# Altium schematic symbol library YakupTrkn.SchLib: 41 symbols
Pins are listed as number, name and electrical type; pins without a type are passive.

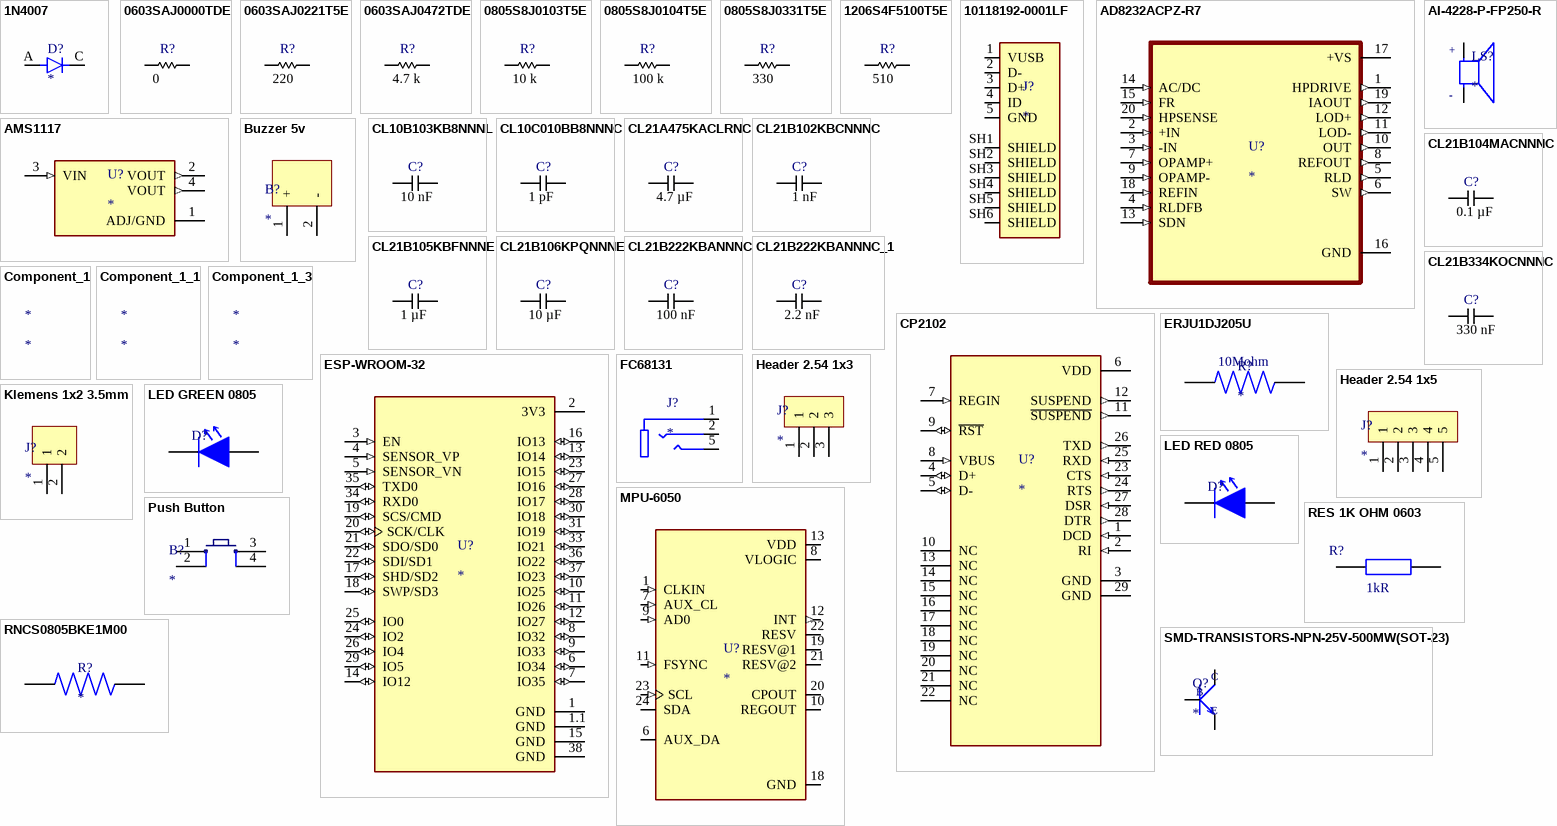
[diagram p0: symbols 1N4007 to SMD-TRANSISTORS-NPN-25V-500MW(SOT-23)]

## 1N4007
designator D?
Diode Switching 1KV 1A 2-Pin DO-41; MP: 1N4007; MF: {'manufacturer': u'ON Semiconductor'}; Availability: Unavailable; Value: *; Package: None; Price: None
footprint DIOAD1060W80L520D270
pins: A, C

## 0603SAJ0000TDE
designator R?  Resistance: 0  (hidden comment: *)
RES SMD 0 OHM 5% 1/10W 0603
footprint ROYALOHM_RES_0603
pins: 1, 2

## 0603SAJ0221T5E
designator R?  Resistance: 220  (hidden comment: *)
RES SMD 220R OHM 5% 1/10W 0603
footprint ROYALOHM_RES_0603
pins: 1, 2

## 0603SAJ0472TDE
designator R?  Resistance: 4.7 k  (hidden comment: *)
RES SMD 4.7K OHM 5% 1/10W 0603
footprint ROYALOHM_RES_0603
pins: 1, 2

## 0805S8J0103T5E
designator R?  Resistance: 10 k  (hidden comment: *)
RES SMD 10K OHM 5% 1/8W 0805
footprint ROYALOHM_RES_0805
pins: 1, 2

## 0805S8J0104T5E
designator R?  Resistance: 100 k  (hidden comment: *)
RES SMD 100K OHM 5% 1/8W 0805
footprint ROYALOHM_RES_0805
pins: 1, 2

## 0805S8J0331T5E
designator R?  Resistance: 330  (hidden comment: *)
RES SMD 330R OHM 5% 1/8W 0805
footprint ROYALOHM_RES_0805
pins: 1, 2

## 1206S4F5100T5E
designator R?  Resistance: 510  (hidden comment: *)
RES SMD 510 OHM 1% 1/4W 1206
footprint ROYALOHM_RES_1206
pins: 1, 2

## 10118192-0001LF
designator J?
Single Port 5 Contact Horizontal Right Angle Shielded Micro B USB 2.0 Connector; MP: 10118192-0001LF; MF: {'manufacturer': u'FCI'}; Package: None; Availability: Unavailable; Value: *; Price: None
footprint AMPHENOL_10118192-0001LF
pins: 1 VUSB, 2 D-, 3 D+, 4 ID, 5 GND, SH1 SHIELD, SH2 SHIELD, SH3 SHIELD, SH4 SHIELD, SH5 SHIELD, SH6 SHIELD

## AD8232ACPZ-R7
designator U?
MP: AD8232ACPZ-R7; MF: {'manufacturer': u'Analog Devices'}; Availability: Unavailable; Price: None; Package: None; Value: *
footprint QFN50P400X400X100-21N
pins: 1 HPDRIVE (out), 2 +IN (in), 3 -IN (in), 4 RLDFB (in), 5 RLD (out), 6 SW (out), 7 OPAMP+ (in), 8 REFOUT (out), 9 OPAMP- (in), 10 OUT (out), 11 LOD- (out), 12 LOD+ (out), 13 SDN (in), 14 AC/DC (in), 15 FR (in), 16 GND (power), 17 +VS (power), 18 REFIN (in), 19 IAOUT (out), 20 HPSENSE (in)

## AI-4228-P-FP250-R
designator LS?
MF: {'manufacturer': u'PUI Audio'}; MP: AI-4228-P-FP250-R; Price: None; Value: *; Package: None; Availability: Unavailable
footprint XDCR_AI-4228-P-FP250-R
pins: N, P
text: +; -

## AMS1117
designator U?
Sot223/Pkg 1-Amp 5-Volt Low Drop Out Voltage Regulatator; MF: {'manufacturer': u'Advanced Monolithic Systems'}; MP: AMS1117; Package: None; Price: None; Availability: Unavailable; Value: *
footprint SOT229P700X180-4N
pins: 1 ADJ/GND (power), 2 VOUT (out), 3 VIN (in), 4 VOUT (out)

## Buzzer 5v
designator B?
Buzzer 5v
footprint Buzzer 5v
pins: 1 +, 2 -

## CL10B103KB8NNNL
designator C?  Capacitance: 10 nF  (hidden comment: *)
CAP CER 10000PF 50V X7R 0603; Supplier 1: Mouser; Supplier Part Number 1: 187-CL10B103KB8NNNL
footprint SAMSUNG_CAP_0603_090
pins: 1, 2

## CL10C010BB8NNNC
designator C?  Capacitance: 1 pF  (hidden comment: *)
CAP CER 1PF 50V C0G/NP0 0603; Supplier 1: Digi-Key; Supplier 2: Arrow Electronics; Supplier Part Number 1: 1276-1095-1-ND; Supplier Part Number 2: CL10C010BB8NNNC
footprint SAMSUNG_CAP_0603_090
pins: 1, 2

## CL21A475KACLRNC
designator C?  Capacitance: 4.7 µF  (hidden comment: *)
CAP CER 4.7UF 25V X5R 0805; Supplier 1: Digi-Key; Supplier 2: Mouser; Supplier 3: Arrow Electronics; Supplier Part Number 1: 1276-2415-1-ND; Supplier Part Number 2: 187-CL21A475KACLRNC; Supplier Part Number 3: CL21A475KACLRNC
footprint SAMSUNG_CAP_0805_095
pins: 1, 2

## CL21B102KBCNNNC
designator C?  Capacitance: 1 nF  (hidden comment: *)
CAP CER 1000PF 50V X7R 0805; Supplier 1: Digi-Key; Supplier 2: Farnell; Supplier 3: Mouser; Supplier Part Number 1: 1276-2425-1-ND; Supplier Part Number 2: 3013468; Supplier Part Number 3: 187-CL21B102KBCNNNC
footprint SAMSUNG_CAP_0805_095
pins: 1, 2

## CL21B104MACNNNC
designator C?  Capacitance: 0.1 µF  (hidden comment: *)
CAP CER 0.1UF 25V X7R 0805; Supplier 1: Digi-Key; Supplier 2: Mouser; Supplier 3: Arrow Electronics; Supplier Part Number 1: 1276-2449-1-ND; Supplier Part Number 2: 187-CL21B104MACNNNC; Supplier Part Number 3: CL21B104MACNNNC
footprint SAMSUNG_CAP_0805_095
pins: 1, 2

## CL21B105KBFNNNE
designator C?  Capacitance: 1 µF  (hidden comment: *)
CAP CER 1UF 50V X7R 0805; Supplier 1: Digi-Key; Supplier 2: Farnell; Supplier 3: Mouser; Supplier Part Number 1: 1276-1029-1-ND; Supplier Part Number 2: 3013482; Supplier Part Number 3: 187-CL21B105KBFNNNE
footprint SAMSUNG_CAP_0805_135
pins: 1, 2

## CL21B106KPQNNNE
designator C?  Capacitance: 10 µF  (hidden comment: *)
CAP CER 10UF 10V X7R 0805; Supplier 1: Digi-Key; Supplier 2: Farnell; Supplier 3: Mouser; Supplier Part Number 1: 1276-1764-6-ND; Supplier Part Number 2: 3013487; Supplier Part Number 3: 187-CL21B106KPQNNNE
footprint SAMSUNG_CAP_0805_140
pins: 1, 2

## CL21B222KBANNNC
designator C?  Capacitance: 100 nF  (hidden comment: *)
CAP CER 100nF 50V X7R 0805; Supplier 1: Digi-Key; Supplier 2: Farnell; Supplier 3: Mouser; Supplier Part Number 1: 1276-1171-1-ND; Supplier Part Number 2: 3013488; Supplier Part Number 3: 187-CL21B222KBANNNC
footprint SAMSUNG_CAP_0805_075
pins: 1, 2

## CL21B222KBANNNC_1
designator C?  Capacitance: 2.2 nF  (hidden comment: *)
CAP CER 2200PF 50V X7R 0805; Supplier 1: Digi-Key; Supplier 2: Farnell; Supplier 3: Mouser; Supplier Part Number 1: 1276-1171-1-ND; Supplier Part Number 2: 3013488; Supplier Part Number 3: 187-CL21B222KBANNNC
footprint SAMSUNG_CAP_0805_075
pins: 1, 2

## CL21B334KOCNNNC
designator C?  Capacitance: 330 nF  (hidden comment: *)
CAP CER 0.33UF 16V X7R 0805; Supplier 1: Digi-Key; Supplier 2: Mouser; Supplier 3: Arrow Electronics; Supplier Part Number 1: 1276-1797-1-ND; Supplier Part Number 2: 187-CL21B334KOCNNNC; Supplier Part Number 3: CL21B334KOCNNNC
footprint SAMSUNG_CAP_0805_095
pins: 1, 2

## Component_1
designator *

## Component_1_1
designator *

## Component_1_3
designator *

## CP2102
designator U?
USB to UART Bridge; MF: {'manufacturer': u'Silicon Labs'}; MP: CP2102; Availability: Unavailable; Value: *; Package: None; Price: None
footprint QFN50P500X500X100-29N
pins: 1 DCD (in), 2 RI (in), 3 GND (power), 4 D+ (io), 5 D- (io), 6 VDD (power), 7 REGIN (in), 8 VBUS (in), 9 ~{RST} (io), 10 NC, 11 ~{SUSPEND} (out), 12 SUSPEND (out), 13 NC, 14 NC, 15 NC, 16 NC, 17 NC, 18 NC, 19 NC, 20 NC, 21 NC, 22 NC, 23 CTS (in), 24 RTS (out), 25 RXD (in), 26 TXD (out), 27 DSR (in), 28 DTR (out), 29 GND (power)

## ERJU1DJ205U
designator R?
MF: {'manufacturer': u'Panasonic'}; MP: ERJU1DJ205U; Package: None; Price: None; Availability: Unavailable; Value: *
footprint RES_ERJU1DJ205U
pins: 1, 2
text: 10Mohm

## ESP-WROOM-32
designator U?
Module: combo; GPIO, I2C x2, I2S x2, SDIO, SPI x3, UART x3; 19.5dBm; MP: ESP-WROOM-32; MF: {'manufacturer': u'Olimex LTD'}; Availability: Unavailable; Price: None; Package: None; Value: *
footprint MODULE_ESP-WROOM-32
pins: 1 GND (power), 1.1 GND (power), 2 3V3 (power), 3 EN (in), 4 SENSOR_VP (in), 5 SENSOR_VN (in), 6 IO34 (io), 7 IO35 (io), 8 IO32 (io), 9 IO33 (io), 10 IO25 (io), 11 IO26 (io), 12 IO27 (io), 13 IO14 (io), 14 IO12 (io), 15 GND (power), 16 IO13 (io), 17 SHD/SD2 (io), 18 SWP/SD3 (io), 19 SCS/CMD (io), 20 SCK/CLK (io), 21 SDO/SD0 (io), 22 SDI/SD1 (io), 23 IO15 (io), 24 IO2 (io), 25 IO0 (io), 26 IO4 (io), 27 IO16 (io), 28 IO17 (io), 29 IO5 (io), 30 IO18 (io), 31 IO19 (io), 33 IO21 (io), 34 RXD0 (io), 35 TXD0 (io), 36 IO22 (io), 37 IO23 (io), 38 GND (power)

## FC68131
designator J?
Stereo Jack, 3.5mm, 3pos, Pcb; MP: FC68131; MF: {'manufacturer': u'Cliff'}; Price: None; Availability: Unavailable; Package: None; Value: *
footprint CLIFF_FC68131
pins: 1 SLEEVE, 2 RING, 5 TIP

## Header 2.54 1x3
designator J?
Header 2.54 1x3
footprint Header 2.54 1x3
pins: 1, 2, 3

## Header 2.54 1x5
designator J?
Header 2.54 1x5
footprint Header 2.54 1x5
pins: 1, 2, 3, 4, 5

## Klemens 1x2 3.5mm
designator J?
Klemens 1x2 3.5mm
footprint Klemens 1x2 - 3.5mm
pins: 1, 2

## LED GREEN 0805
designator D?, comment LTST-C171GKT  (value not drawn)
Green 0805 130 º Min 5 mcd Typical 12 mcd Water Clear Lens SMT LED; Manufacturer: Vishay Lite-On; Designed by: BERK; Lens Color: Colorless; Viewing Angle: 130°; Lens Style: Diffused,Colorless,Rectangular,Clear; Luminous Intensity: 12mcd; Forward Current: 30mA; Forward Voltage: 2.1V; Power Rating: 100mW; Dominant Wavelength: 569nm; Test Current: 10mA; Number of Elements: 1; Wavelength: 585nm; Reverse Voltage: 5V; Supplier 1: Digi-Key; Manufacturer Part Number: LTST-C171GKT; RoHS: Yes; Category: LEDs; Stock 1: 159023; Pricing 1: 1=0,26000, 10=0,14100, 100=0,06560, 500=0,06060, 1000=0,04747 (USD); Mount: Surface Mount; Case/Package: 0805; Number of Pins: 2; Color: Green; Case Code (Metric): 2012; Case Code (Imperial): 0805; Min Operating Temperature: -55°C; Max Operating Temperature: 85°C; Package Quantity: 1; Packaging: Tape and Reel; Illumination Color: Green; Lens Transparency: Clear; Power Dissipation: 100mW; Number of LEDs: 1; Series: CHIPLED 0805; Length: 2mm; Width: 1.25mm; Height: 0.8mm; Depth: 1.25mm; Radiation Hardening: No; Lead Free: Lead Free; RoHS Compliant: Yes; ComponentLink1URL: https://datasheet.ciiva.com/2110/ltst-c171gkt-2110000.pdf?src-supplier=Digi-Key; ComponentLink1Description: https://datasheet.ciiva.com/2110/ltst-c171gkt-2110000.pdf?src-supplier=Digi-Key; ComponentLink2URL: https://datasheet.ciiva.com/11773/0900766b80dc0296-11773991.pdf?src-supplier=RSComponents; ComponentLink2Description: https://datasheet.ciiva.com/11773/0900766b80dc0296-11773991.pdf?src-supplier=RSComponents; ComponentLink3URL: https://datasheet.ciiva.com/12400/lite-on-ltst-c171gkt-190133-12400647.pdf?src-supplier=Mouser; ComponentLink3Description: https://datasheet.ciiva.com/12400/lite-on-ltst-c171gkt-190133-12400647.pdf?src-supplier=Mouser; ComponentLink4URL: https://datasheet.ciiva.com/2110/ltst-c171gkt-2110001.pdf?src-supplier=Digi-Key; ComponentLink4Description: https://datasheet.ciiva.com/2110/ltst-c171gkt-2110001.pdf?src-supplier=Digi-Key; ComponentLink5URL: https://datasheet.ciiva.com/2110/ltst-c171gkt-2110002.pdf?src-supplier=Digi-Key; ComponentLink5Description: https://datasheet.ciiva.com/2110/ltst-c171gkt-2110002.pdf?src-supplier=Digi-Key; ComponentLink6URL: https://datasheet.ciiva.com/16396/ltst-c171gkt-16396549.pdf?src-supplier=Future+Electronics; ComponentLink6Description: https://datasheet.ciiva.com/16396/ltst-c171gkt-16396549.pdf?src-supplier=Future+Electronics; Supplier Part Number 1: 160-1423-1-ND
footprint LED_GREEN_0805
pins: 1 (power), 2 (power)

## LED RED 0805
designator D?, comment LH R974-LP-1  (value not drawn)
LED Uni-Color Hyper Red 660nm 2-Pin Chip 0805(2012Metric) T/R; Manufacturer: Osram Opto; Lens Color: White; Forward Voltage: 1.8V; Lens Style: Diffused,Flat,Colorless; Luminous Intensity: 71mcd; Viewing Angle: 160°; Forward Current: 30mA; Dominant Wavelength: 645nm; Number of Elements: 1; Test Current: 20mA; Reverse Voltage: 5V; Lens Transparency: Diffused; Luminous Flux: 0.17lm; Lens Size: 1.25mm; Designed by: BERK; Supplier 1: Digi-Key; Manufacturer Part Number: LH R974-LP-1; RoHS: Yes; Category: LEDs; Stock 1: 35632; Pricing 1: 1=0,26000, 10=0,13900, 100=0,06480, 500=0,05978, 1000=0,04683, 2000=0,04584 (USD); Mount: Surface Mount; Case/Package: 0805; Number of Pins: 2; Color: Red; Case Code (Imperial): 0805; Case Code (Metric): 2012; Min Operating Temperature: -30°C; Max Operating Temperature: 85°C; Packaging: Tape and Reel; Illumination Color: Red; Package Quantity: 1; Series: CHipLED; Length: 2.1mm; Width: 1.25mm; Depth: 1.35mm; Radiation Hardening: No; RoHS Compliant: Yes; ComponentLink1URL: http://www.jameco.com/Jameco/Products/ProdDS/2085634.pdf?src-supplier=Jameco; ComponentLink1Description: http://www.jameco.com/Jameco/Products/ProdDS/2085634.pdf?src-supplier=Jameco; ComponentLink2URL: http://components.arrow.com/part/dataview/0323_01825492?src-supplier=Arrow+Europe; ComponentLink2Description: http://components.arrow.com/part/dataview/0323_01825492?src-supplier=Arrow+Europe; ComponentLink3URL: https://dammedia.osram.info/media/resource/hires/osram-dam-2493888/LH%20R974.pdf?src-supplier=Digi-Key; ComponentLink3Description: https://dammedia.osram.info/media/resource/hires/osram-dam-2493888/LH%20R974.pdf?src-supplier=Digi-Key; ComponentLink4URL: http://www.mouser.com/ds/2/311/LH%20R974%20-%20CHIPLED%200805-318659.pdf?src-supplier=Mouser; ComponentLink4Description: http://www.mouser.com/ds/2/311/LH%20R974%20-%20CHIPLED%200805-318659.pdf?src-supplier=Mouser; ComponentLink5URL: https://www.verical.com/server-webapp/html/getDatasheet?partID=258950&src-supplier=Verical; ComponentLink5Description: https://www.verical.com/server-webapp/html/getDatasheet?partID=258950&src-supplier=Verical; ComponentLink6URL: http://components.arrow.com/part/dataview/41971690S1077610N9133?src-supplier=Arrow+Electronics; ComponentLink6Description: http://components.arrow.com/part/dataview/41971690S1077610N9133?src-supplier=Arrow+Electronics; ComponentLink7URL: http://components.arrow.com/part/dataview/41971690S6190115N2128?src-supplier=Arrow+Electronics; ComponentLink7Description: http://components.arrow.com/part/dataview/41971690S6190115N2128?src-supplier=Arrow+Electronics; Supplier Part Number 1: 475-1415-1-ND
footprint LED_RED_0805
pins: 1 (power), 2 (power)

## MPU-6050
designator U?
MPU-6050 Six-Axis (Gyro + Accelerometer) MEMS MotionTrackingâ„¢ Devices; MF: {'manufacturer': u'TDK InvenSense'}; Availability: Unavailable; Value: *; Package: None; Price: None; MP: MPU-6050
footprint QFN50P400X400X95-24N
pins: 1 CLKIN (in), 6 AUX_DA (io), 7 AUX_CL (in), 8 VLOGIC (power), 9 AD0 (in), 10 REGOUT, 11 FSYNC (in), 12 INT (out), 13 VDD (power), 18 GND (power), 19 RESV@1, 20 CPOUT, 21 RESV@2, 22 RESV, 23 SCL (in), 24 SDA (io)

## Push Button
designator B?
Smd Push Button; Satın Alma Linki: https://urun.n11.com/diger/mini-pushbutton-switch-smd-P227461537?gclid=Cj0KCQjwkoDmBRCcARIsAG3xzl8Y_-jeD7HocNM6lvuZ_rVp83568XPGtNzlPwXWLph8oCRqo0yh87UaApZYEALw_wcB&gclsrc=aw.ds
footprint PUSB BUTTON-SMD
pins: 1, 2, 3, 4

## RES 1K OHM 0603
designator R?, comment Resistance: 1kR  (hidden comment: RC0603FR-0710KL)
RES 1K %1 OHM 0603 SMD; Manufacturer: Yageo; Manufacturer Part Number: RC0603JR-071KL; Designed by: BERK; Tolerance: 5%; Temperature Coefficient: 100ppm/°C; Voltage Rating (DC): 50V; Power Rating: 100mW; Body Length: 1.6mm; Supplier 1: Digi-Key; RoHS: Yes; Category: Chip SMD Resistors; Stock 1: 5112056; Pricing 1: 1=0,10000, 10=0,01900, 100=0,00770, 1000=0,00344, 2500=0,00298 (USD); Case/Package: 0603; Number of Pins: 2; Contact Plating: Tin,Matte; Case Code (Imperial): 0603; Case Code (Metric): 1608; Size Code: 0603; Min Operating Temperature: -55°C; Max Operating Temperature: 155°C; Resistor Type: Thick Film; Packaging: Tape and Reel; Package Quantity: 5000; Voltage Rating: 50V; Termination: SMD/SMT; Series: RC; Resistance Tolerance: 5%; Construction: Rectangular; Length: 1.6mm; Width: 0.8mm; Height: 0.45mm; Depth: 0.8mm; Radiation Hardening: No; REACH SVHC: Unknown; Lead Free: Lead Free; Military Standard: Not; RoHS Compliant: Yes; ComponentLink1URL: https://datasheet.ciiva.com/8883/pyu-rc0603-51-rohs-l-4-8883051.pdf?src-supplier=Avnet; ComponentLink1Description: https://datasheet.ciiva.com/8883/pyu-rc0603-51-rohs-l-4-8883051.pdf?src-supplier=Avnet; ComponentLink2URL: https://datasheet.ciiva.com/7746/443971-7746461.pdf?src-supplier=Element14; ComponentLink2Description: https://datasheet.ciiva.com/7746/443971-7746461.pdf?src-supplier=Element14; ComponentLink3URL: https://datasheet.ciiva.com/22747/443971-22747533.pdf?src-supplier=Element14; ComponentLink3Description: https://datasheet.ciiva.com/22747/443971-22747533.pdf?src-supplier=Element14; ComponentLink4URL: https://datasheet.ciiva.com/7746/443971-7746462.pdf?src-supplier=Element14; ComponentLink4Description: https://datasheet.ciiva.com/7746/443971-7746462.pdf?src-supplier=Element14; Supplier Part Number 1: 311-1.0KGRCT-ND
footprint RES_0603
pins: 1, 2

## RNCS0805BKE1M00
designator R?
MP: RNCS0805BKE1M00; MF: {'manufacturer': u'Stackpole Electronics Inc'}; Availability: Unavailable; Package: None; Value: *; Price: None
footprint RESC2012X65N
pins: 1, 2

## SMD-TRANSISTORS-NPN-25V-500MW(SOT-23)
designator Q?
305010017; MP: S8050; MF: {'manufacturer': u'UMW'}; Availability: Unavailable; Package: None; Value: *; Price: None
footprint SOT-23
pins: 1 B, 2 E, 3 C

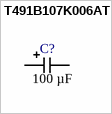
[diagram p1: symbol T491B107K006AT]

## T491B107K006AT
designator C?  Capacitance: 100 µF  (hidden comment: *)
CAP TANT 100UF 10% 6.3V 1411; Supplier 1: Digi-Key; Supplier 2: Farnell; Supplier 3: Mouser; Supplier Part Number 1: 399-8301-1-ND; Supplier Part Number 2: 1457438; Supplier Part Number 3: 80-T491B107K006
footprint KEMET_CAP_TAN-B
pins: 1, 2